# Altium schematic symbol library SMT_Pushbutton.SchLib: 1 symbol
Pins are listed as number, name and electrical type; pins without a type are passive.

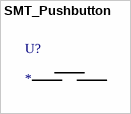
[diagram p0: symbol SMT_Pushbutton]

## SMT_Pushbutton
designator U?
pins: 1, 2, 3, 4